# EAGLE library part NT2006 (library semiconductor-jqi)
6 CH level shifter, eg, http://www.nxp.com/documents/data_sheet/NVT2003_04_06.pdf
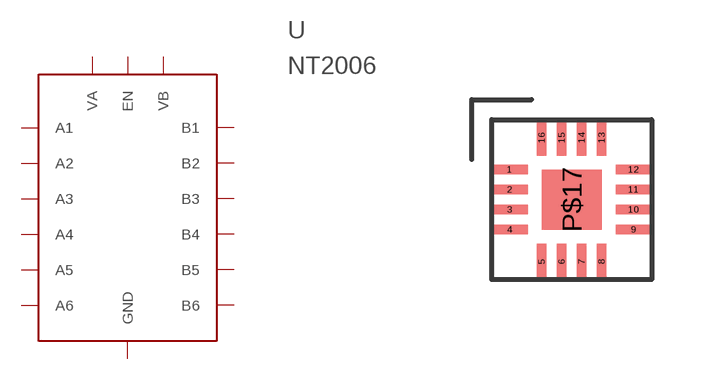
[diagram p0: symbol with the pads of HVQFN16; footprint HVQFN16]

Designator prefix U

## NT2006  [HVQFN16]
1  A1
2  A2
3  A3
4  A4
5  A5
6  A6
7  B6
8  B5
9  B4
10  B3
11  B2
12  B1
13  VB
14  EN
15  GND
16  VA
P$17  GND

## Footprint HVQFN16 (pad centres in mm)
HVQFN 16 pin package, eg, http://www.nxp.com/documents/data_sheet/NVT2003_04_06.pdf
smd 0.9 x 0.24: 1 -1.55,0.75; 2 -1.55,0.25; 3 -1.55,-0.25; 4 -1.55,-0.75; 9 1.55,-0.75; 10 1.55,-0.25; 11 1.55,0.25; 12 1.55,0.75
smd 0.24 x 0.9: 5 -0.75,-1.55; 6 -0.25,-1.55; 7 0.25,-1.55; 8 0.75,-1.55; 13 0.75,1.55; 14 0.25,1.55; 15 -0.25,1.55; 16 -0.75,1.55
smd 1.5 x 1.5: P$17 0,0